# EAGLE library part AT25DF321 (library Synapseware)
32-megabit, 2.7-volt Minimum SPI Serial Flash Memory
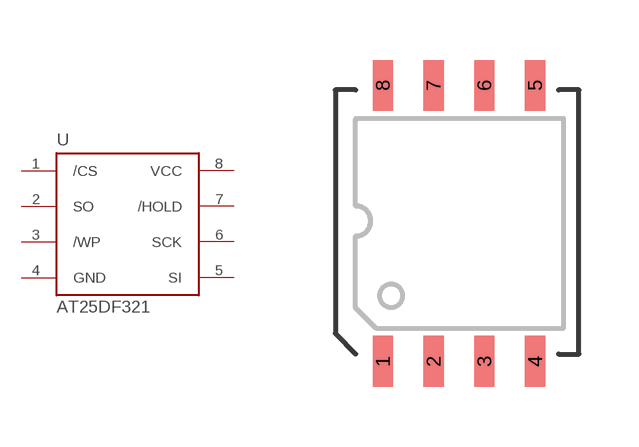
[diagram p14: symbol with the pads of WSOIC-8; footprint WSOIC-8]

Designator prefix -

## AT25DF321  [WSOIC-8]
1  /CS
2  SO
3  /WP
4  GND
5  SI
6  SCK
7  /HOLD
8  VCC

## Footprint WSOIC-8 (pad centres in mm)
WSOIC-8 (8S2)
smd 0.508 x 1.27: 1 -1.855,-3.486; 2 -0.585,-3.486; 3 0.685,-3.486; 4 1.955,-3.486; 5 1.955,3.413; 6 0.685,3.413; 7 -0.585,3.413; 8 -1.855,3.413